# EAGLE library part 74HC153 (library Public)
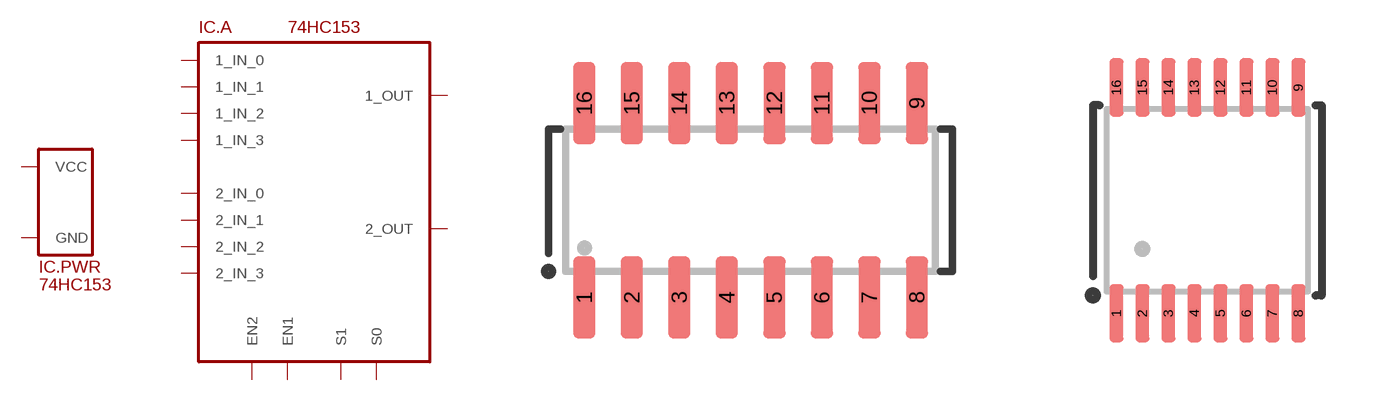
[diagram p15: symbol with the pads of SO16; footprints SO16, TSSOP16]

Designator prefix IC; gates .PWR=SUPPLY_VCC/GND .A=74HC153

## 74HC153(SO16)  [SO16]
1  .A:EN1
2  .A:S1
3  .A:1_IN_3
4  .A:1_IN_2
5  .A:1_IN_1
6  .A:1_IN_0
7  .A:1_OUT
8  .PWR:GND
9  .A:2_OUT
10  .A:2_IN_0
11  .A:2_IN_1
12  .A:2_IN_2
13  .A:2_IN_3
14  .A:S0
15  .A:EN2
16  .PWR:VCC

## 74HC153(TSSOP16)  [TSSOP16]
Pads as for SO16

## Footprint SO16 (pad centres in mm)
smd 0.6 x 2.2: 1 -4.445,-2.6; 2 -3.175,-2.6; 3 -1.905,-2.6; 4 -0.635,-2.6; 5 0.635,-2.6; 6 1.905,-2.6; 7 3.175,-2.6; 8 4.445,-2.6; 9 4.445,2.6; 10 3.175,2.6; 11 1.905,2.6; 12 0.635,2.6; 13 -0.635,2.6; 14 -1.905,2.6; 15 -3.175,2.6; 16 -4.445,2.6

## Footprint TSSOP16 (pad centres in mm)
smd 0.35 x 1.45: 1 -2.275,-2.825; 2 -1.625,-2.825; 3 -0.975,-2.825; 4 -0.325,-2.825; 5 0.325,-2.825; 6 0.975,-2.825; 7 1.625,-2.825; 8 2.275,-2.825; 9 2.275,2.825; 10 1.625,2.825; 11 0.975,2.825; 12 0.325,2.825; 13 -0.325,2.825; 14 -0.975,2.825; 15 -1.625,2.825; 16 -2.275,2.825